# EAGLE library part EPM9560-BGA356 (library altera)
EPM9560 MAX 9000 family
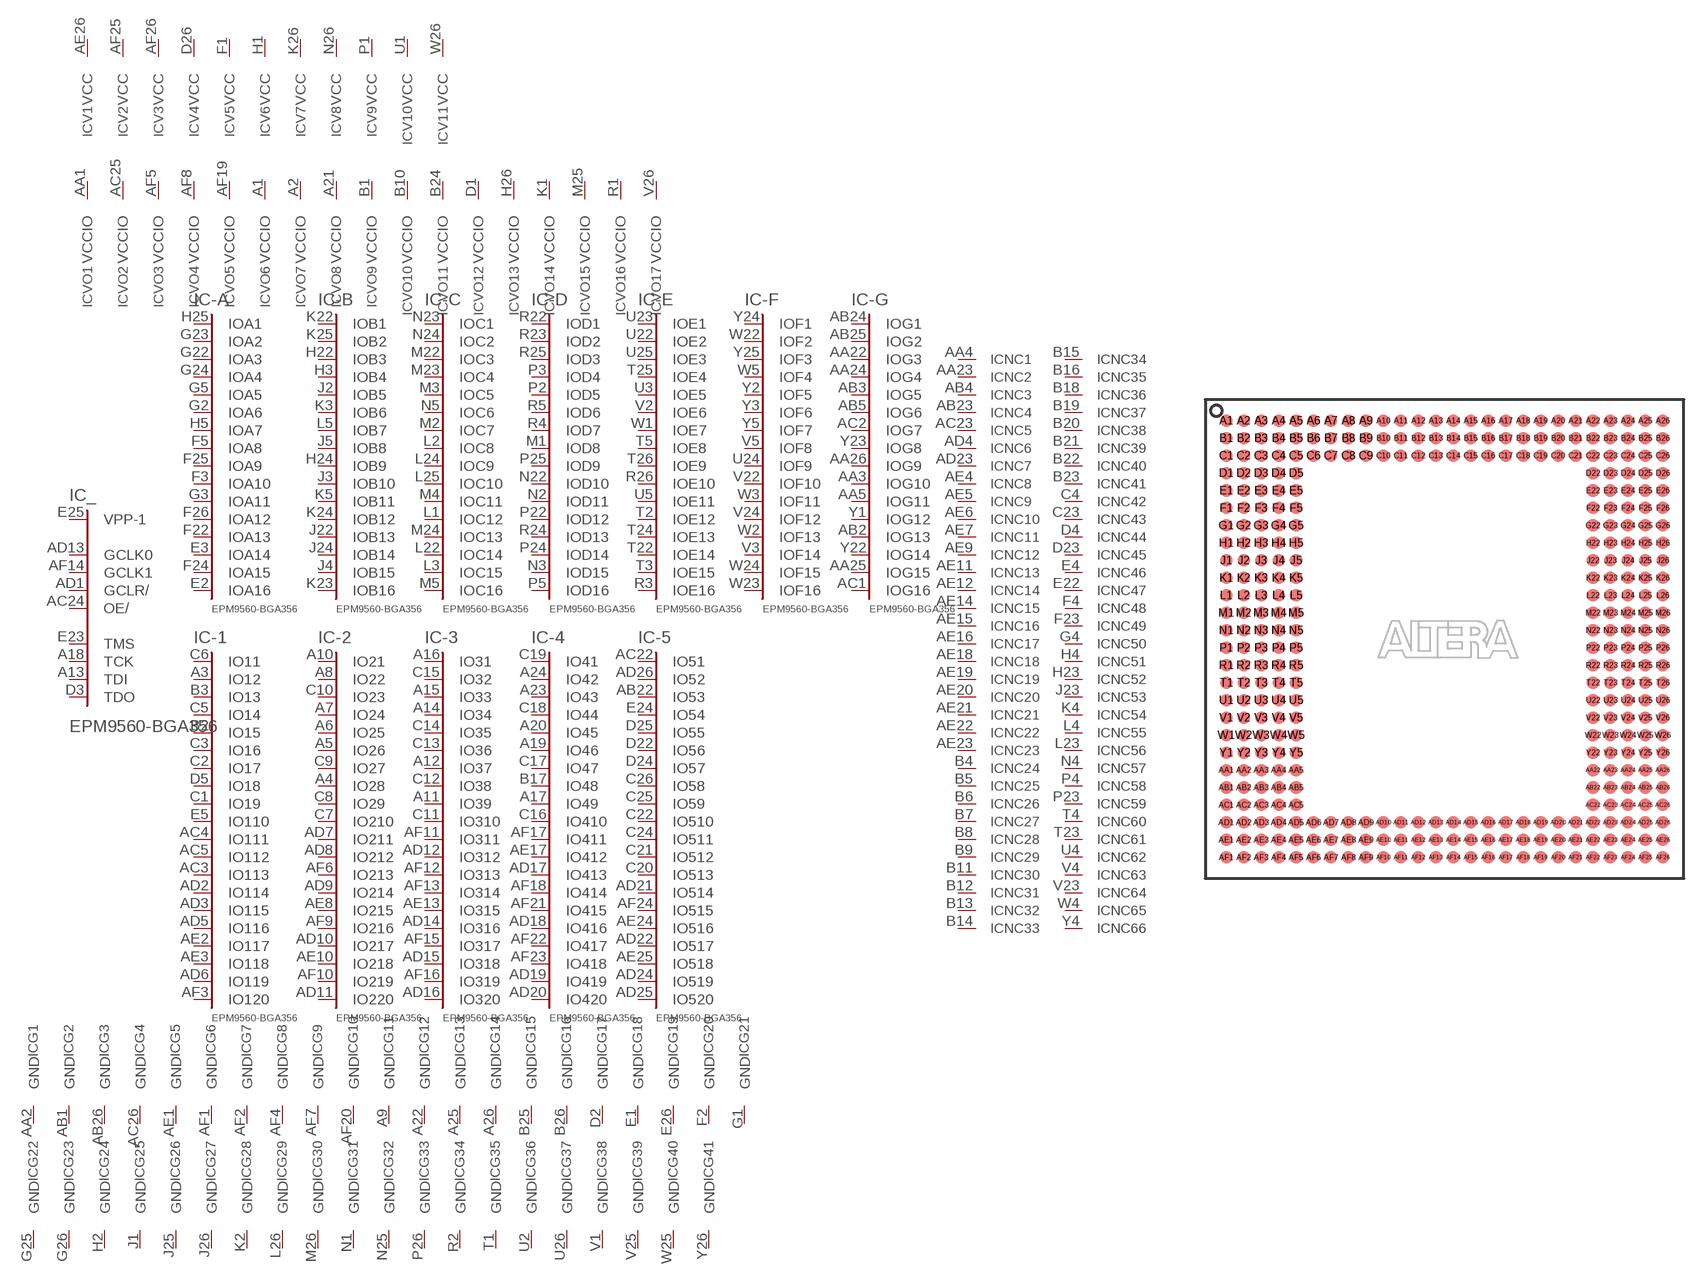
[diagram p3: symbol with the pads of BGA356; footprint BGA356]

Designator prefix IC; gates _=9560C356 -A=A16-0 -B=B16-0 -C=C16-0 -D=D16-0 -E=E16-0 -1=IO120 -2=IO220 -3=IO320 -4=IO420 -5=IO520 -F=F16-0 -G=G16-0 V1=VCCINT V2=VCCINT V3=VCCINT V4=VCCINT V5=VCCINT V6=VCCINT V7=VCCINT V8=VCCINT V9=VCCINT V10=VCCINT V11=VCCINT VO1=VCCIO VO2=VCCIO VO3=VCCIO VO4=VCCIO VO5=VCCIO VO6=VCCIO VO7=VCCIO VO8=VCCIO VO9=VCCIO VO10=VCCIO VO11=VCCIO VO12=VCCIO VO13=VCCIO VO14=VCCIO VO15=VCCIO VO16=VCCIO VO17=VCCIO G1=GND G2=GND G3=GND G4=GND G5=GND G6=GND G7=GND G8=GND G9=GND G10=GND G11=GND G12=GND G13=GND G14=GND G15=GND G16=GND G17=GND G18=GND G19=GND G20=GND G21=GND G22=GND G23=GND G24=GND G25=GND G26=GND G27=GND G28=GND G29=GND G30=GND G31=GND G32=GND G33=GND G34=GND G35=GND G36=GND G37=GND G38=GND G39=GND G40=GND G41=GND NC1=NC NC2=NC NC3=NC NC4=NC NC5=NC NC6=NC NC7=NC NC8=NC NC9=NC NC10=NC NC11=NC NC12=NC NC13=NC NC14=NC NC15=NC NC16=NC NC17=NC NC18=NC NC19=NC NC20=NC NC21=NC NC22=NC NC23=NC NC24=NC NC25=NC NC26=NC NC27=NC NC28=NC NC29=NC NC30=NC NC31=NC NC32=NC NC33=NC NC34=NC NC35=NC NC36=NC NC37=NC NC38=NC NC39=NC NC40=NC NC41=NC NC42=NC NC43=NC NC44=NC NC45=NC NC46=NC NC47=NC NC48=NC NC49=NC NC50=NC NC51=NC NC52=NC NC53=NC NC54=NC NC55=NC NC56=NC NC57=NC NC58=NC NC59=NC NC60=NC NC61=NC NC62=NC NC63=NC NC64=NC NC65=NC NC66=NC

## EPM9560-BGA356 (MPN: EPM9560ABC356-10; OC_FARNELL: unknown; OC_NEWARK: 51R9960)  [BGA356]
A1  VO6:VCCIO  pwr
A2  VO7:VCCIO  pwr
A3  -1:IO12
A4  -2:IO28
A5  -2:IO26
A6  -2:IO25
A7  -2:IO24
A8  -2:IO22
A9  G11:GND  pwr
A10  -2:IO21
A11  -3:IO39
A12  -3:IO37
A13  _:TDI
A14  -3:IO34
A15  -3:IO33
A16  -3:IO31
A17  -4:IO49
A18  _:TCK
A19  -4:IO46
A20  -4:IO45
A21  VO8:VCCIO  pwr
A22  G12:GND  pwr
A23  -4:IO43
A24  -4:IO42
A25  G13:GND  pwr
A26  G14:GND  pwr
AA1  VO1:VCCIO  pwr
AA2  G1:GND  pwr
AA3  -G:IOG10
AA4  NC1:NC  nc
AA5  -G:IOG11
AA22  -G:IOG3
AA23  NC2:NC  nc
AA24  -G:IOG4
AA25  -G:IOG15
AA26  -G:IOG9
AB1  G2:GND  pwr
AB2  -G:IOG13
AB3  -G:IOG5
AB4  NC3:NC  nc
AB5  -G:IOG6
AB22  -5:IO53
AB23  NC4:NC  nc
AB24  -G:IOG1
AB25  -G:IOG2
AB26  G3:GND  pwr
AC1  -G:IOG16
AC2  -G:IOG7
AC3  -1:IO113
AC4  -1:IO111
AC5  -1:IO112
AC22  -5:IO51
AC23  NC5:NC  nc
AC24  _:OE/  in
AC25  VO2:VCCIO  pwr
AC26  G4:GND  pwr
AD1  _:GCLR/  in
AD2  -1:IO114
AD3  -1:IO115
AD4  NC6:NC  nc
AD5  -1:IO116
AD6  -1:IO119
AD7  -2:IO211
AD8  -2:IO212
AD9  -2:IO214
AD10  -2:IO217
AD11  -2:IO220
AD12  -3:IO312
AD13  _:GCLK0  in
AD14  -3:IO316
AD15  -3:IO318
AD16  -3:IO320
AD17  -4:IO413
AD18  -4:IO416
AD19  -4:IO419
AD20  -4:IO420
AD21  -5:IO514
AD22  -5:IO517
AD23  NC7:NC  nc
AD24  -5:IO519
AD25  -5:IO520
AD26  -5:IO52
AE1  G5:GND  pwr
AE2  -1:IO117
AE3  -1:IO118
AE4  NC8:NC  nc
AE5  NC9:NC  nc
AE6  NC10:NC  nc
AE7  NC11:NC  nc
AE8  -2:IO215
AE9  NC12:NC  nc
AE10  -2:IO218
AE11  NC13:NC  nc
AE12  NC14:NC  nc
AE13  -3:IO315
AE14  NC15:NC  nc
AE15  NC16:NC  nc
AE16  NC17:NC  nc
AE17  -4:IO412
AE18  NC18:NC  nc
AE19  NC19:NC  nc
AE20  NC20:NC  nc
AE21  NC21:NC  nc
AE22  NC22:NC  nc
AE23  NC23:NC  nc
AE24  -5:IO516
AE25  -5:IO518
AE26  V1:VCC  pwr
AF1  G6:GND  pwr
AF2  G7:GND  pwr
AF3  -1:IO120
AF4  G8:GND  pwr
AF5  VO3:VCCIO  pwr
AF6  -2:IO213
AF7  G9:GND  pwr
AF8  VO4:VCCIO  pwr
AF9  -2:IO216
AF10  -2:IO219
AF11  -3:IO311
AF12  -3:IO313
AF13  -3:IO314
AF14  _:GCLK1  in
AF15  -3:IO317
AF16  -3:IO319
AF17  -4:IO411
AF18  -4:IO414
AF19  VO5:VCCIO  pwr
AF20  G10:GND  pwr
AF21  -4:IO415
AF22  -4:IO417
AF23  -4:IO418
AF24  -5:IO515
AF25  V2:VCC  pwr
AF26  V3:VCC  pwr
B1  VO9:VCCIO  pwr
B2  -1:IO15
B3  -1:IO13
B4  NC24:NC  nc
B5  NC25:NC  nc
B6  NC26:NC  nc
B7  NC27:NC  nc
B8  NC28:NC  nc
B9  NC29:NC  nc
B10  VO10:VCCIO  pwr
B11  NC30:NC  nc
B12  NC31:NC  nc
B13  NC32:NC  nc
B14  NC33:NC  nc
B15  NC34:NC  nc
B16  NC35:NC  nc
B17  -4:IO48
B18  NC36:NC  nc
B19  NC37:NC  nc
B20  NC38:NC  nc
B21  NC39:NC  nc
B22  NC40:NC  nc
B23  NC41:NC  nc
B24  VO11:VCCIO  pwr
B25  G15:GND  pwr
B26  G16:GND  pwr
C1  -1:IO19
C2  -1:IO17
C3  -1:IO16
C4  NC42:NC  nc
C5  -1:IO14
C6  -1:IO11
C7  -2:IO210
C8  -2:IO29
C9  -2:IO27
C10  -2:IO23
C11  -3:IO310
C12  -3:IO38
C13  -3:IO36
C14  -3:IO35
C15  -3:IO32
C16  -4:IO410
C17  -4:IO47
C18  -4:IO44
C19  -4:IO41
C20  -5:IO513
C21  -5:IO512
C22  -5:IO510
C23  NC43:NC  nc
C24  -5:IO511
C25  -5:IO59
C26  -5:IO58
D1  VO12:VCCIO  pwr
D2  G17:GND  pwr
D3  _:TDO
D4  NC44:NC  nc
D5  -1:IO18
D22  -5:IO56
D23  NC45:NC  nc
D24  -5:IO57
D25  -5:IO55
D26  V4:VCC  pwr
E1  G18:GND  pwr
E2  -A:IOA16
E3  -A:IOA14
E4  NC46:NC  nc
E5  -1:IO110
E22  NC47:NC  nc
E23  _:TMS
E24  -5:IO54
E25  _:VPP-1  in
E26  G19:GND  pwr
F1  V5:VCC  pwr
F2  G20:GND  pwr
F3  -A:IOA10
F4  NC48:NC  nc
F5  -A:IOA8
F22  -A:IOA13
F23  NC49:NC  nc
F24  -A:IOA15
F25  -A:IOA9
F26  -A:IOA12
G1  G21:GND  pwr
G2  -A:IOA6
G3  -A:IOA11
G4  NC50:NC  nc
G5  -A:IOA5
G22  -A:IOA3
G23  -A:IOA2
G24  -A:IOA4
G25  G22:GND  pwr
G26  G23:GND  pwr
H1  V6:VCC  pwr
H2  G24:GND  pwr
H3  -B:IOB4
H4  NC51:NC  nc
H5  -A:IOA7
H22  -B:IOB3
H23  NC52:NC  nc
H24  -B:IOB9
H25  -A:IOA1
H26  VO13:VCCIO  pwr
J1  G25:GND  pwr
J2  -B:IOB5
J3  -B:IOB10
J4  -B:IOB15
J5  -B:IOB8
J22  -B:IOB13
J23  NC53:NC  nc
J24  -B:IOB14
J25  G26:GND  pwr
J26  G27:GND  pwr
K1  VO14:VCCIO  pwr
K2  G28:GND  pwr
K3  -B:IOB6
K4  NC54:NC  nc
K5  -B:IOB11
K22  -B:IOB1
K23  -B:IOB16
K24  -B:IOB12
K25  -B:IOB2
K26  V7:VCC  pwr
L1  -C:IOC12
L2  -C:IOC8
L3  -C:IOC15
L4  NC55:NC  nc
L5  -B:IOB7
L22  -C:IOC14
L23  NC56:NC  nc
L24  -C:IOC9
L25  -C:IOC10
L26  G29:GND  pwr
M1  -D:IOD8
M2  -C:IOC7
M3  -C:IOC5
M4  -C:IOC11
M5  -C:IOC16
M22  -C:IOC3
M23  -C:IOC4
M24  -C:IOC13
M25  VO15:VCCIO  pwr
M26  G30:GND  pwr
N1  G31:GND  pwr
N2  -D:IOD11
N3  -D:IOD15
N4  NC57:NC  nc
N5  -C:IOC6
N22  -D:IOD10
N23  -C:IOC1
N24  -C:IOC2
N25  G32:GND  pwr
N26  V8:VCC  pwr
P1  V9:VCC  pwr
P2  -D:IOD5
P3  -D:IOD4
P4  NC58:NC  nc
P5  -D:IOD16
P22  -D:IOD12
P23  NC59:NC  nc
P24  -D:IOD14
P25  -D:IOD9
P26  G33:GND  pwr
R1  VO16:VCCIO  pwr
R2  G34:GND  pwr
R3  -E:IOE16
R4  -D:IOD7
R5  -D:IOD6
R22  -D:IOD1
R23  -D:IOD2
R24  -D:IOD13
R25  -D:IOD3
R26  -E:IOE10
T1  G35:GND  pwr
T2  -E:IOE12
T3  -E:IOE15
T4  NC60:NC  nc
T5  -E:IOE8
T22  -E:IOE14
T23  NC61:NC  nc
T24  -E:IOE13
T25  -E:IOE4
T26  -E:IOE9
U1  V10:VCC  pwr
U2  G36:GND  pwr
U3  -E:IOE5
U4  NC62:NC  nc
U5  -E:IOE11
U22  -E:IOE2
U23  -E:IOE1
U24  -F:IOF9
U25  -E:IOE3
U26  G37:GND  pwr
V1  G38:GND  pwr
V2  -E:IOE6
V3  -F:IOF14
V4  NC63:NC  nc
V5  -F:IOF8
V22  -F:IOF10
V23  NC64:NC  nc
V24  -F:IOF12
V25  G39:GND  pwr
V26  VO17:VCCIO  pwr
W1  -E:IOE7
W2  -F:IOF13
W3  -F:IOF11
W4  NC65:NC  nc
W5  -F:IOF4
W22  -F:IOF2
W23  -F:IOF16
W24  -F:IOF15
W25  G40:GND  pwr
W26  V11:VCC  pwr
Y1  -G:IOG12
Y2  -F:IOF5
Y3  -F:IOF6
Y4  NC66:NC  nc
Y5  -F:IOF7
Y22  -G:IOG14
Y23  -G:IOG8
Y24  -F:IOF1
Y25  -F:IOF3
Y26  G41:GND  pwr

## Footprint BGA356 (pad centres in mm)
Ball Grid Array
smd 0.9 x 0.9: A1 -15.875,15.875; A2 -14.605,15.875; A3 -13.335,15.875; A4 -12.065,15.875; A5 -10.795,15.875; A6 -9.525,15.875; A7 -8.255,15.875; A8 -6.985,15.875; A9 -5.715,15.875; A10 -4.445,15.875; A11 -3.175,15.875; A12 -1.905,15.875; A13 -0.635,15.875; A14 0.635,15.875; A15 1.905,15.875; A16 3.175,15.875; A17 4.445,15.875; A18 5.715,15.875; A19 6.985,15.875; A20 8.255,15.875; A21 9.525,15.875; A22 10.795,15.875; A23 12.065,15.875; A24 13.335,15.875; A25 14.605,15.875; A26 15.875,15.875; AA1 -15.875,-9.525; AA2 -14.605,-9.525; AA3 -13.335,-9.525; AA4 -12.065,-9.525; AA5 -10.795,-9.525; AA22 10.795,-9.525; AA23 12.065,-9.525; AA24 13.335,-9.525; AA25 14.605,-9.525; AA26 15.875,-9.525; AB1 -15.875,-10.795; AB2 -14.605,-10.795; AB3 -13.335,-10.795; AB4 -12.065,-10.795; AB5 -10.795,-10.795; AB22 10.795,-10.795; AB23 12.065,-10.795; AB24 13.335,-10.795; AB25 14.605,-10.795; AB26 15.875,-10.795; AC1 -15.875,-12.065; AC2 -14.605,-12.065; AC3 -13.335,-12.065; AC4 -12.065,-12.065; AC5 -10.795,-12.065; AC22 10.795,-12.065; AC23 12.065,-12.065; AC24 13.335,-12.065; AC25 14.605,-12.065; AC26 15.875,-12.065; AD1 -15.875,-13.335; AD2 -14.605,-13.335; AD3 -13.335,-13.335; AD4 -12.065,-13.335; AD5 -10.795,-13.335; AD6 -9.525,-13.335; AD7 -8.255,-13.335; AD8 -6.985,-13.335; AD9 -5.715,-13.335; AD10 -4.445,-13.335; AD11 -3.175,-13.335; AD12 -1.905,-13.335; AD13 -0.635,-13.335; AD14 0.635,-13.335; AD15 1.905,-13.335; AD16 3.175,-13.335; AD17 4.445,-13.335; AD18 5.715,-13.335; AD19 6.985,-13.335; AD20 8.255,-13.335; AD21 9.525,-13.335; AD22 10.795,-13.335; AD23 12.065,-13.335; AD24 13.335,-13.335; AD25 14.605,-13.335; AD26 15.875,-13.335; AE1 -15.875,-14.605; AE2 -14.605,-14.605; AE3 -13.335,-14.605; AE4 -12.065,-14.605; AE5 -10.795,-14.605; AE6 -9.525,-14.605; AE7 -8.255,-14.605; AE8 -6.985,-14.605; AE9 -5.715,-14.605; AE10 -4.445,-14.605; AE11 -3.175,-14.605; AE12 -1.905,-14.605; AE13 -0.635,-14.605; AE14 0.635,-14.605; AE15 1.905,-14.605; AE16 3.175,-14.605; AE17 4.445,-14.605; AE18 5.715,-14.605; AE19 6.985,-14.605; AE20 8.255,-14.605; AE21 9.525,-14.605; AE22 10.795,-14.605; AE23 12.065,-14.605; AE24 13.335,-14.605; AE25 14.605,-14.605; AE26 15.875,-14.605; AF1 -15.875,-15.875; AF2 -14.605,-15.875; AF3 -13.335,-15.875; AF4 -12.065,-15.875; AF5 -10.795,-15.875; AF6 -9.525,-15.875; AF7 -8.255,-15.875; AF8 -6.985,-15.875; AF9 -5.715,-15.875; AF10 -4.445,-15.875; AF11 -3.175,-15.875; AF12 -1.905,-15.875; AF13 -0.635,-15.875; AF14 0.635,-15.875; AF15 1.905,-15.875; AF16 3.175,-15.875; AF17 4.445,-15.875; AF18 5.715,-15.875; AF19 6.985,-15.875; AF20 8.255,-15.875; AF21 9.525,-15.875; AF22 10.795,-15.875; AF23 12.065,-15.875; AF24 13.335,-15.875; AF25 14.605,-15.875; AF26 15.875,-15.875; B1 -15.875,14.605; B2 -14.605,14.605; B3 -13.335,14.605; B4 -12.065,14.605; B5 -10.795,14.605; B6 -9.525,14.605; B7 -8.255,14.605; B8 -6.985,14.605; B9 -5.715,14.605; B10 -4.445,14.605; B11 -3.175,14.605; B12 -1.905,14.605; B13 -0.635,14.605; B14 0.635,14.605; B15 1.905,14.605; B16 3.175,14.605; B17 4.445,14.605; B18 5.715,14.605; B19 6.985,14.605; B20 8.255,14.605; B21 9.525,14.605; B22 10.795,14.605; B23 12.065,14.605; B24 13.335,14.605; B25 14.605,14.605; B26 15.875,14.605; C1 -15.875,13.335; C2 -14.605,13.335; C3 -13.335,13.335; C4 -12.065,13.335; C5 -10.795,13.335; C6 -9.525,13.335; C7 -8.255,13.335; C8 -6.985,13.335; C9 -5.715,13.335; C10 -4.445,13.335; C11 -3.175,13.335; C12 -1.905,13.335; C13 -0.635,13.335; C14 0.635,13.335; C15 1.905,13.335; C16 3.175,13.335; C17 4.445,13.335; C18 5.715,13.335; C19 6.985,13.335; C20 8.255,13.335; C21 9.525,13.335; C22 10.795,13.335; C23 12.065,13.335; C24 13.335,13.335; C25 14.605,13.335; C26 15.875,13.335; D1 -15.875,12.065; D2 -14.605,12.065; D3 -13.335,12.065; D4 -12.065,12.065; D5 -10.795,12.065; D22 10.795,12.065; D23 12.065,12.065; D24 13.335,12.065; D25 14.605,12.065; D26 15.875,12.065; E1 -15.875,10.795; E2 -14.605,10.795; E3 -13.335,10.795; E4 -12.065,10.795; E5 -10.795,10.795; E22 10.795,10.795; E23 12.065,10.795; E24 13.335,10.795; E25 14.605,10.795; E26 15.875,10.795; F1 -15.875,9.525; F2 -14.605,9.525; F3 -13.335,9.525; F4 -12.065,9.525; F5 -10.795,9.525; F22 10.795,9.525; F23 12.065,9.525; F24 13.335,9.525; F25 14.605,9.525; F26 15.875,9.525; G1 -15.875,8.255; G2 -14.605,8.255; G3 -13.335,8.255; G4 -12.065,8.255; G5 -10.795,8.255; G22 10.795,8.255; G23 12.065,8.255; G24 13.335,8.255; G25 14.605,8.255; G26 15.875,8.255; H1 -15.875,6.985; H2 -14.605,6.985; H3 -13.335,6.985; H4 -12.065,6.985; H5 -10.795,6.985; H22 10.795,6.985; H23 12.065,6.985; H24 13.335,6.985; H25 14.605,6.985; H26 15.875,6.985; J1 -15.875,5.715; J2 -14.605,5.715; J3 -13.335,5.715; J4 -12.065,5.715; J5 -10.795,5.715; J22 10.795,5.715; J23 12.065,5.715; J24 13.335,5.715; J25 14.605,5.715; J26 15.875,5.715; K1 -15.875,4.445; K2 -14.605,4.445; K3 -13.335,4.445; K4 -12.065,4.445; K5 -10.795,4.445; K22 10.795,4.445; K23 12.065,4.445; K24 13.335,4.445; K25 14.605,4.445; K26 15.875,4.445; L1 -15.875,3.175; L2 -14.605,3.175; L3 -13.335,3.175; L4 -12.065,3.175; L5 -10.795,3.175; L22 10.795,3.175; L23 12.065,3.175; L24 13.335,3.175; L25 14.605,3.175; L26 15.875,3.175; M1 -15.875,1.905; M2 -14.605,1.905; M3 -13.335,1.905; M4 -12.065,1.905; M5 -10.795,1.905; M22 10.795,1.905; M23 12.065,1.905; M24 13.335,1.905; M25 14.605,1.905; M26 15.875,1.905; N1 -15.875,0.635; N2 -14.605,0.635; N3 -13.335,0.635; N4 -12.065,0.635; N5 -10.795,0.635; N22 10.795,0.635; N23 12.065,0.635; N24 13.335,0.635; N25 14.605,0.635; N26 15.875,0.635; P1 -15.875,-0.635; P2 -14.605,-0.635; P3 -13.335,-0.635; P4 -12.065,-0.635; P5 -10.795,-0.635; P22 10.795,-0.635; P23 12.065,-0.635; P24 13.335,-0.635; P25 14.605,-0.635; P26 15.875,-0.635; R1 -15.875,-1.905; R2 -14.605,-1.905; R3 -13.335,-1.905; R4 -12.065,-1.905; R5 -10.795,-1.905; R22 10.795,-1.905; R23 12.065,-1.905; R24 13.335,-1.905; R25 14.605,-1.905; R26 15.875,-1.905; T1 -15.875,-3.175; T2 -14.605,-3.175; T3 -13.335,-3.175; T4 -12.065,-3.175; T5 -10.795,-3.175; T22 10.795,-3.175; T23 12.065,-3.175; T24 13.335,-3.175; T25 14.605,-3.175; T26 15.875,-3.175; U1 -15.875,-4.445; U2 -14.605,-4.445; U3 -13.335,-4.445; U4 -12.065,-4.445; U5 -10.795,-4.445; U22 10.795,-4.445; U23 12.065,-4.445; U24 13.335,-4.445; U25 14.605,-4.445; U26 15.875,-4.445; V1 -15.875,-5.715; V2 -14.605,-5.715; V3 -13.335,-5.715; V4 -12.065,-5.715; V5 -10.795,-5.715; V22 10.795,-5.715; V23 12.065,-5.715; V24 13.335,-5.715; V25 14.605,-5.715; V26 15.875,-5.715; W1 -15.875,-6.985; W2 -14.605,-6.985; W3 -13.335,-6.985; W4 -12.065,-6.985; W5 -10.795,-6.985; W22 10.795,-6.985; W23 12.065,-6.985; W24 13.335,-6.985; W25 14.605,-6.985; W26 15.875,-6.985; Y1 -15.875,-8.255; Y2 -14.605,-8.255; Y3 -13.335,-8.255; Y4 -12.065,-8.255; Y5 -10.795,-8.255; Y22 10.795,-8.255; Y23 12.065,-8.255; Y24 13.335,-8.255; Y25 14.605,-8.255; Y26 15.875,-8.255